# Altium integrated library transformer.IntLib: 1 symbol
Pins are listed as number, name and electrical type; pins without a type are passive.

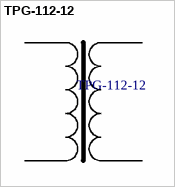
[diagram p0: symbol TPG-112-12]

## TPG-112-12
designator TPG-112-12  (value not drawn)
TPG-112-12
footprint TPG-112-12
pins: 1, 5, 7, 9